# Altium integrated library Wuerth Elektronik SMD Power Choke.IntLib: 844 symbols (part 6 of 9)
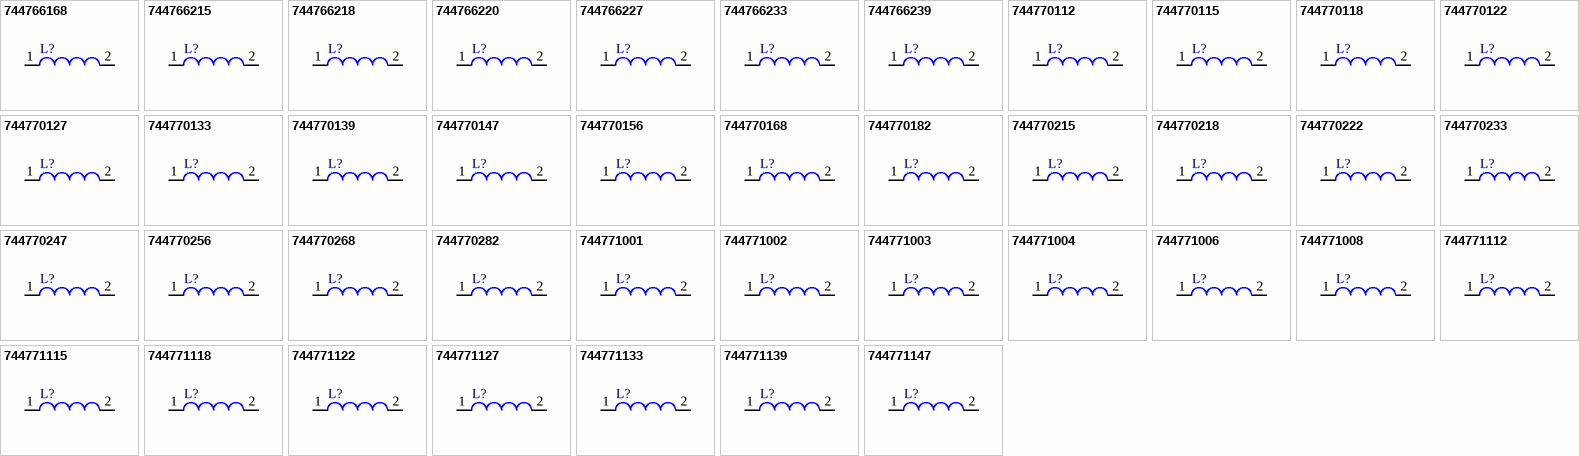
[diagram p27: symbols 744766168 to 744771147]

## 744771147
designator L?
SMD-Shielded Power Inductor WE-PD, L = 47.0 µH; Inductance: 47.0 µH; DatasheetVersion: ver 6, Jun-2005; PackageVersion: 2006; PackageReference: WE-PD-L; PackageDescription: SMD Inductor, 2-Leads, Body 12.0 x 12.0 mm; ComponentLink1Description: Manufacturer URL; ComponentLink1URL: http://www.we-online.com; ComponentLink2Description: Datasheet; ComponentLink2URL: http://www.we-online.de/katalog/media/pdf/744771147.pdf
footprint WE-PD-L (SMD Inductor, 2-Leads, Body 12.0x12.0x6.0 mm)
pins: 1, 2

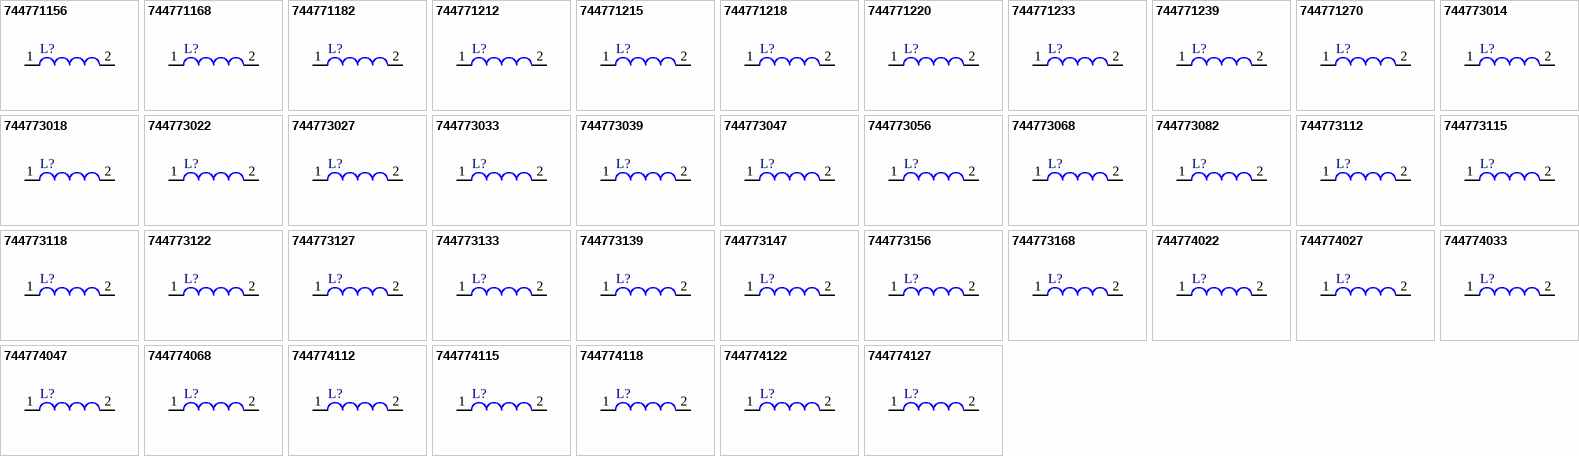
[diagram p12: symbols 744771156 to 744774127]

## 744771156
designator L?
SMD-Shielded Power Inductor WE-PD, L = 56.0 µH; Inductance: 56.0 µH; DatasheetVersion: ver 6, Jun-2005; PackageVersion: 2006; PackageReference: WE-PD-L; PackageDescription: SMD Inductor, 2-Leads, Body 12.0 x 12.0 mm; ComponentLink1Description: Manufacturer URL; ComponentLink1URL: http://www.we-online.com; ComponentLink2Description: Datasheet; ComponentLink2URL: http://www.we-online.de/katalog/media/pdf/744771156.pdf
footprint WE-PD-L (SMD Inductor, 2-Leads, Body 12.0x12.0x6.0 mm)
pins: 1, 2

## 744771168
designator L?
SMD-Shielded Power Inductor WE-PD, L = 68.0 µH; Inductance: 68.0 µH; DatasheetVersion: ver 6, Jun-2005; PackageVersion: 2006; PackageReference: WE-PD-L; PackageDescription: SMD Inductor, 2-Leads, Body 12.0 x 12.0 mm; ComponentLink1Description: Manufacturer URL; ComponentLink1URL: http://www.we-online.com; ComponentLink2Description: Datasheet; ComponentLink2URL: http://www.we-online.de/katalog/media/pdf/744771168.pdf
footprint WE-PD-L (SMD Inductor, 2-Leads, Body 12.0x12.0x6.0 mm)
pins: 1, 2

## 744771182
designator L?
SMD-Shielded Power Inductor WE-PD, L = 82.0 µH; Inductance: 82.0 µH; DatasheetVersion: ver 6, Jun-2005; PackageVersion: 2006; PackageReference: WE-PD-L; PackageDescription: SMD Inductor, 2-Leads, Body 12.0 x 12.0 mm; ComponentLink1Description: Manufacturer URL; ComponentLink1URL: http://www.we-online.com; ComponentLink2Description: Datasheet; ComponentLink2URL: http://www.we-online.de/katalog/media/pdf/744771182.pdf
footprint WE-PD-L (SMD Inductor, 2-Leads, Body 12.0x12.0x6.0 mm)
pins: 1, 2

## 744771212
designator L?
SMD-Shielded Power Inductor WE-PD, L = 120 µH; Inductance: 120 µH; DatasheetVersion: ver 6, Jun-2005; PackageVersion: 2006; PackageReference: WE-PD-L; PackageDescription: SMD Inductor, 2-Leads, Body 12.0 x 12.0 mm; ComponentLink1Description: Manufacturer URL; ComponentLink1URL: http://www.we-online.com; ComponentLink2Description: Datasheet; ComponentLink2URL: http://www.we-online.de/katalog/media/pdf/744771212.pdf
footprint WE-PD-L (SMD Inductor, 2-Leads, Body 12.0x12.0x6.0 mm)
pins: 1, 2

## 744771215
designator L?
SMD-Shielded Power Inductor WE-PD, L = 150 µH; Inductance: 150 µH; DatasheetVersion: ver 6, Jun-2005; PackageVersion: 2006; PackageReference: WE-PD-L; PackageDescription: SMD Inductor, 2-Leads, Body 12.0 x 12.0 mm; ComponentLink1Description: Manufacturer URL; ComponentLink1URL: http://www.we-online.com; ComponentLink2Description: Datasheet; ComponentLink2URL: http://www.we-online.de/katalog/media/pdf/744771215.pdf
footprint WE-PD-L (SMD Inductor, 2-Leads, Body 12.0x12.0x6.0 mm)
pins: 1, 2

## 744771218
designator L?
SMD-Shielded Power Inductor WE-PD, L = 1820 µH; Inductance: 180 µH; DatasheetVersion: ver 6, Jun-2005; PackageVersion: 2006; PackageReference: WE-PD-L; PackageDescription: SMD Inductor, 2-Leads, Body 12.0 x 12.0 mm; ComponentLink1Description: Manufacturer URL; ComponentLink1URL: http://www.we-online.com; ComponentLink2Description: Datasheet; ComponentLink2URL: http://www.we-online.de/katalog/media/pdf/744771218.pdf
footprint WE-PD-L (SMD Inductor, 2-Leads, Body 12.0x12.0x6.0 mm)
pins: 1, 2

## 744771220
designator L?
SMD-Shielded Power Inductor WE-PD, L = 220 µH; Inductance: 220 µH; DatasheetVersion: ver 6, Jun-2005; PackageVersion: 2006; PackageReference: WE-PD-L; PackageDescription: SMD Inductor, 2-Leads, Body 12.0 x 12.0 mm; ComponentLink1Description: Manufacturer URL; ComponentLink1URL: http://www.we-online.com; ComponentLink2Description: Datasheet; ComponentLink2URL: http://www.we-online.de/katalog/media/pdf/744771220.pdf
footprint WE-PD-L (SMD Inductor, 2-Leads, Body 12.0x12.0x6.0 mm)
pins: 1, 2

## 744771233
designator L?
SMD-Shielded Power Inductor WE-PD, L = 330 µH; Inductance: 330 µH; DatasheetVersion: ver 6, Jun-2005; PackageVersion: 2006; PackageReference: WE-PD-L; PackageDescription: SMD Inductor, 2-Leads, Body 12.0 x 12.0 mm; ComponentLink1Description: Manufacturer URL; ComponentLink1URL: http://www.we-online.com; ComponentLink2Description: Datasheet; ComponentLink2URL: http://www.we-online.de/katalog/media/pdf/744771233.pdf
footprint WE-PD-L (SMD Inductor, 2-Leads, Body 12.0x12.0x6.0 mm)
pins: 1, 2

## 744771239
designator L?
SMD-Shielded Power Inductor WE-PD, L = 390 µH; Inductance: 390 µH; DatasheetVersion: ver 6, Jun-2005; PackageVersion: 2006; PackageReference: WE-PD-L; PackageDescription: SMD Inductor, 2-Leads, Body 12.0 x 12.0 mm; ComponentLink1Description: Manufacturer URL; ComponentLink1URL: http://www.we-online.com; ComponentLink2Description: Datasheet; ComponentLink2URL: http://www.we-online.de/katalog/media/pdf/744771239.pdf
footprint WE-PD-L (SMD Inductor, 2-Leads, Body 12.0x12.0x6.0 mm)
pins: 1, 2

## 744771270
designator L?
SMD-Shielded Power Inductor WE-PD, L = 270 µH; Inductance: 270 µH; DatasheetVersion: ver 6, Jun-2005; PackageVersion: 2006; PackageReference: WE-PD-L; PackageDescription: SMD Inductor, 2-Leads, Body 12.0 x 12.0 mm; ComponentLink1Description: Manufacturer URL; ComponentLink1URL: http://www.we-online.com; ComponentLink2Description: Datasheet; ComponentLink2URL: http://www.we-online.de/katalog/media/pdf/744771270.pdf
footprint WE-PD-L (SMD Inductor, 2-Leads, Body 12.0x12.0x6.0 mm)
pins: 1, 2

## 744773014
designator L?
SMD Power Inductor WE-PD2, L = 1.40 µH; Inductance: 1.40 µH; DatasheetVersion: ver 1, Oct-2004; PackageVersion: 2004; PackageReference: WE-PD2-S; PackageDescription: SMD Inductor, 2-Leads, Body 4.5 x 4.0 mm; ComponentLink1Description: Manufacturer URL; ComponentLink1URL: http://www.we-online.com; ComponentLink2Description: Datasheet; ComponentLink2URL: http://www.we-online.de/katalog/media/pdf/744773014.pdf
footprint WE-PD2-S (SMD Inductor, 2-Leads, Body 4.5x4.0x3.5 mm)
pins: 1, 2

## 744773018
designator L?
SMD Power Inductor WE-PD2, L = 1.80 µH; Inductance: 1.80 µH; DatasheetVersion: ver 1, Oct-2004; PackageVersion: 2004; PackageReference: WE-PD2-S; PackageDescription: SMD Inductor, 2-Leads, Body 4.5 x 4.0 mm; ComponentLink1Description: Manufacturer URL; ComponentLink1URL: http://www.we-online.com; ComponentLink2Description: Datasheet; ComponentLink2URL: http://www.we-online.de/katalog/media/pdf/744773018.pdf
footprint WE-PD2-S (SMD Inductor, 2-Leads, Body 4.5x4.0x3.5 mm)
pins: 1, 2

## 744773022
designator L?
SMD Power Inductor WE-PD2, L = 2.20 µH; Inductance: 2.20 µH; DatasheetVersion: ver 1, Oct-2004; PackageVersion: 2004; PackageReference: WE-PD2-S; PackageDescription: SMD Inductor, 2-Leads, Body 4.5 x 4.0 mm; ComponentLink1Description: Manufacturer URL; ComponentLink1URL: http://www.we-online.com; ComponentLink2Description: Datasheet; ComponentLink2URL: http://www.we-online.de/katalog/media/pdf/744773022.pdf
footprint WE-PD2-S (SMD Inductor, 2-Leads, Body 4.5x4.0x3.5 mm)
pins: 1, 2

## 744773027
designator L?
SMD Power Inductor WE-PD2, L = 2.70 µH; Inductance: 2.70 µH; DatasheetVersion: ver 1, Oct-2004; PackageVersion: 2004; PackageReference: WE-PD2-S; PackageDescription: SMD Inductor, 2-Leads, Body 4.5 x 4.0 mm; ComponentLink1Description: Manufacturer URL; ComponentLink1URL: http://www.we-online.com; ComponentLink2Description: Datasheet; ComponentLink2URL: http://www.we-online.de/katalog/media/pdf/744773027.pdf
footprint WE-PD2-S (SMD Inductor, 2-Leads, Body 4.5x4.0x3.5 mm)
pins: 1, 2

## 744773033
designator L?
SMD Power Inductor WE-PD2, L = 3.30 µH; Inductance: 3.30 µH; DatasheetVersion: ver 1, Oct-2004; PackageVersion: 2004; PackageReference: WE-PD2-S; PackageDescription: SMD Inductor, 2-Leads, Body 4.5 x 4.0 mm; ComponentLink1Description: Manufacturer URL; ComponentLink1URL: http://www.we-online.com; ComponentLink2Description: Datasheet; ComponentLink2URL: http://www.we-online.de/katalog/media/pdf/744773033.pdf
footprint WE-PD2-S (SMD Inductor, 2-Leads, Body 4.5x4.0x3.5 mm)
pins: 1, 2

## 744773039
designator L?
SMD Power Inductor WE-PD2, L = 3.90 µH; Inductance: 3.90 µH; DatasheetVersion: ver 1, Oct-2004; PackageVersion: 2004; PackageReference: WE-PD2-S; PackageDescription: SMD Inductor, 2-Leads, Body 4.5 x 4.0 mm; ComponentLink1Description: Manufacturer URL; ComponentLink1URL: http://www.we-online.com; ComponentLink2Description: Datasheet; ComponentLink2URL: http://www.we-online.de/katalog/media/pdf/744773039.pdf
footprint WE-PD2-S (SMD Inductor, 2-Leads, Body 4.5x4.0x3.5 mm)
pins: 1, 2

## 744773047
designator L?
SMD Power Inductor WE-PD2, L = 4.70 µH; Inductance: 4.70 µH; DatasheetVersion: ver 1, Oct-2004; PackageVersion: 2004; PackageReference: WE-PD2-S; PackageDescription: SMD Inductor, 2-Leads, Body 4.5 x 4.0 mm; ComponentLink1Description: Manufacturer URL; ComponentLink1URL: http://www.we-online.com; ComponentLink2Description: Datasheet; ComponentLink2URL: http://www.we-online.de/katalog/media/pdf/744773047.pdf
footprint WE-PD2-S (SMD Inductor, 2-Leads, Body 4.5x4.0x3.5 mm)
pins: 1, 2

## 744773056
designator L?
SMD Power Inductor WE-PD2, L = 5.60 µH; Inductance: 5.60 µH; DatasheetVersion: ver 1, Oct-2004; PackageVersion: 2004; PackageReference: WE-PD2-S; PackageDescription: SMD Inductor, 2-Leads, Body 4.5 x 4.0 mm; ComponentLink1Description: Manufacturer URL; ComponentLink1URL: http://www.we-online.com; ComponentLink2Description: Datasheet; ComponentLink2URL: http://www.we-online.de/katalog/media/pdf/744773056.pdf
footprint WE-PD2-S (SMD Inductor, 2-Leads, Body 4.5x4.0x3.5 mm)
pins: 1, 2

## 744773068
designator L?
SMD Power Inductor WE-PD2, L = 6.80 µH; Inductance: 6.80 µH; DatasheetVersion: ver 1, Oct-2004; PackageVersion: 2004; PackageReference: WE-PD2-S; PackageDescription: SMD Inductor, 2-Leads, Body 4.5 x 4.0 mm; ComponentLink1Description: Manufacturer URL; ComponentLink1URL: http://www.we-online.com; ComponentLink2Description: Datasheet; ComponentLink2URL: http://www.we-online.de/katalog/media/pdf/744773068.pdf
footprint WE-PD2-S (SMD Inductor, 2-Leads, Body 4.5x4.0x3.5 mm)
pins: 1, 2

## 744773082
designator L?
SMD Power Inductor WE-PD2, L = 8.20 µH; Inductance: 8.20 µH; DatasheetVersion: ver 1, Oct-2004; PackageVersion: 2004; PackageReference: WE-PD2-S; PackageDescription: SMD Inductor, 2-Leads, Body 4.5 x 4.0 mm; ComponentLink1Description: Manufacturer URL; ComponentLink1URL: http://www.we-online.com; ComponentLink2Description: Datasheet; ComponentLink2URL: http://www.we-online.de/katalog/media/pdf/744773082.pdf
footprint WE-PD2-S (SMD Inductor, 2-Leads, Body 4.5x4.0x3.5 mm)
pins: 1, 2

## 744773112
designator L?
SMD Power Inductor WE-PD2, L = 12.0 µH; Inductance: 12.0 µH; DatasheetVersion: ver 1, Oct-2004; PackageVersion: 2004; PackageReference: WE-PD2-S; PackageDescription: SMD Inductor, 2-Leads, Body 4.5 x 4.0 mm; ComponentLink1Description: Manufacturer URL; ComponentLink1URL: http://www.we-online.com; ComponentLink2Description: Datasheet; ComponentLink2URL: http://www.we-online.de/katalog/media/pdf/744773112.pdf
footprint WE-PD2-S (SMD Inductor, 2-Leads, Body 4.5x4.0x3.5 mm)
pins: 1, 2

## 744773115
designator L?
SMD Power Inductor WE-PD2, L = 15.0 µH; Inductance: 15.0 µH; DatasheetVersion: ver 1, Oct-2004; PackageVersion: 2004; PackageReference: WE-PD2-S; PackageDescription: SMD Inductor, 2-Leads, Body 4.5 x 4.0 mm; ComponentLink1Description: Manufacturer URL; ComponentLink1URL: http://www.we-online.com; ComponentLink2Description: Datasheet; ComponentLink2URL: http://www.we-online.de/katalog/media/pdf/744773115.pdf
footprint WE-PD2-S (SMD Inductor, 2-Leads, Body 4.5x4.0x3.5 mm)
pins: 1, 2

## 744773118
designator L?
SMD Power Inductor WE-PD2, L = 18.0 µH; Inductance: 18.0 µH; DatasheetVersion: ver 1, Oct-2004; PackageVersion: 2004; PackageReference: WE-PD2-S; PackageDescription: SMD Inductor, 2-Leads, Body 4.5 x 4.0 mm; ComponentLink1Description: Manufacturer URL; ComponentLink1URL: http://www.we-online.com; ComponentLink2Description: Datasheet; ComponentLink2URL: http://www.we-online.de/katalog/media/pdf/744773118.pdf
footprint WE-PD2-S (SMD Inductor, 2-Leads, Body 4.5x4.0x3.5 mm)
pins: 1, 2

## 744773122
designator L?
SMD Power Inductor WE-PD2, L = 22.0 µH; Inductance: 22.0 µH; DatasheetVersion: ver 1, Oct-2004; PackageVersion: 2004; PackageReference: WE-PD2-S; PackageDescription: SMD Inductor, 2-Leads, Body 4.5 x 4.0 mm; ComponentLink1Description: Manufacturer URL; ComponentLink1URL: http://www.we-online.com; ComponentLink2Description: Datasheet; ComponentLink2URL: http://www.we-online.de/katalog/media/pdf/744773122.pdf
footprint WE-PD2-S (SMD Inductor, 2-Leads, Body 4.5x4.0x3.5 mm)
pins: 1, 2

## 744773127
designator L?
SMD Power Inductor WE-PD2, L = 27.0 µH; Inductance: 27.0 µH; DatasheetVersion: ver 1, Oct-2004; PackageVersion: 2004; PackageReference: WE-PD2-S; PackageDescription: SMD Inductor, 2-Leads, Body 4.5 x 4.0 mm; ComponentLink1Description: Manufacturer URL; ComponentLink1URL: http://www.we-online.com; ComponentLink2Description: Datasheet; ComponentLink2URL: http://www.we-online.de/katalog/media/pdf/744773127.pdf
footprint WE-PD2-S (SMD Inductor, 2-Leads, Body 4.5x4.0x3.5 mm)
pins: 1, 2

## 744773133
designator L?
SMD Power Inductor WE-PD2, L = 33.0 µH; Inductance: 33.0 µH; DatasheetVersion: ver 1, Oct-2004; PackageVersion: 2004; PackageReference: WE-PD2-S; PackageDescription: SMD Inductor, 2-Leads, Body 4.5 x 4.0 mm; ComponentLink1Description: Manufacturer URL; ComponentLink1URL: http://www.we-online.com; ComponentLink2Description: Datasheet; ComponentLink2URL: http://www.we-online.de/katalog/media/pdf/744773133.pdf
footprint WE-PD2-S (SMD Inductor, 2-Leads, Body 4.5x4.0x3.5 mm)
pins: 1, 2

## 744773139
designator L?
SMD Power Inductor WE-PD2, L = 39.0 µH; Inductance: 39.0 µH; DatasheetVersion: ver 1, Oct-2004; PackageVersion: 2004; PackageReference: WE-PD2-S; PackageDescription: SMD Inductor, 2-Leads, Body 4.5 x 4.0 mm; ComponentLink1Description: Manufacturer URL; ComponentLink1URL: http://www.we-online.com; ComponentLink2Description: Datasheet; ComponentLink2URL: http://www.we-online.de/katalog/media/pdf/744773139.pdf
footprint WE-PD2-S (SMD Inductor, 2-Leads, Body 4.5x4.0x3.5 mm)
pins: 1, 2

## 744773147
designator L?
SMD Power Inductor WE-PD2, L = 47.0 µH; Inductance: 47.0 µH; DatasheetVersion: ver 1, Oct-2004; PackageVersion: 2004; PackageReference: WE-PD2-S; PackageDescription: SMD Inductor, 2-Leads, Body 4.5 x 4.0 mm; ComponentLink1Description: Manufacturer URL; ComponentLink1URL: http://www.we-online.com; ComponentLink2Description: Datasheet; ComponentLink2URL: http://www.we-online.de/katalog/media/pdf/744773147.pdf
footprint WE-PD2-S (SMD Inductor, 2-Leads, Body 4.5x4.0x3.5 mm)
pins: 1, 2

## 744773156
designator L?
SMD Power Inductor WE-PD2, L = 56.0 µH; Inductance: 56.0 µH; DatasheetVersion: ver 1, Oct-2004; PackageVersion: 2004; PackageReference: WE-PD2-S; PackageDescription: SMD Inductor, 2-Leads, Body 4.5 x 4.0 mm; ComponentLink1Description: Manufacturer URL; ComponentLink1URL: http://www.we-online.com; ComponentLink2Description: Datasheet; ComponentLink2URL: http://www.we-online.de/katalog/media/pdf/744773156.pdf
footprint WE-PD2-S (SMD Inductor, 2-Leads, Body 4.5x4.0x3.5 mm)
pins: 1, 2

## 744773168
designator L?
SMD Power Inductor WE-PD2, L = 68.0 µH; Inductance: 68.0 µH; DatasheetVersion: ver 1, Oct-2004; PackageVersion: 2004; PackageReference: WE-PD2-S; PackageDescription: SMD Inductor, 2-Leads, Body 4.5 x 4.0 mm; ComponentLink1Description: Manufacturer URL; ComponentLink1URL: http://www.we-online.com; ComponentLink2Description: Datasheet; ComponentLink2URL: http://www.we-online.de/katalog/media/pdf/744773168.pdf
footprint WE-PD2-S (SMD Inductor, 2-Leads, Body 4.5x4.0x3.5 mm)
pins: 1, 2

## 744774022
designator L?
SMD Power Inductor WE-PD2, L = 2.20 µH; Inductance: 2.20 µH; DatasheetVersion: ver 2, Jun-2005; PackageVersion: 2005; PackageReference: WE-PD2-M; PackageDescription: SMD Inductor, 2-Leads, Body 5.8 x 5.2 mm; ComponentLink1Description: Manufacturer URL; ComponentLink1URL: http://www.we-online.com; ComponentLink2Description: Datasheet; ComponentLink2URL: http://www.we-online.de/katalog/media/pdf/744774022.pdf
footprint WE-PD2-M (SMD Inductor, 2-Leads, Body 5.8x5.2x4.85 mm)
pins: 1, 2

## 744774027
designator L?
SMD Power Inductor WE-PD2, L = 2.70 µH; Inductance: 2.70 µH; DatasheetVersion: ver 2, Jun-2005; PackageVersion: 2005; PackageReference: WE-PD2-M; PackageDescription: SMD Inductor, 2-Leads, Body 5.8 x 5.2 mm; ComponentLink1Description: Manufacturer URL; ComponentLink1URL: http://www.we-online.com; ComponentLink2Description: Datasheet; ComponentLink2URL: http://www.we-online.de/katalog/media/pdf/744774027.pdf
footprint WE-PD2-M (SMD Inductor, 2-Leads, Body 5.8x5.2x4.85 mm)
pins: 1, 2

## 744774033
designator L?
SMD Power Inductor WE-PD2, L = 3.30 µH; Inductance: 3.30 µH; DatasheetVersion: ver 1, Mar-2007; PackageVersion: 2005; PackageReference: WE-PD2-M; PackageDescription: SMD Inductor, 2-Leads, Body 5.8 x 5.2 mm; ComponentLink1Description: Manufacturer URL; ComponentLink1URL: http://www.we-online.com; ComponentLink2Description: Datasheet; ComponentLink2URL: http://www.we-online.de/katalog/media/pdf/744774033.pdf
footprint WE-PD2-M (SMD Inductor, 2-Leads, Body 5.8x5.2x4.85 mm)
pins: 1, 2

## 744774047
designator L?
SMD Power Inductor WE-PD2, L = 4.70 µH; Inductance: 4.70 µH; DatasheetVersion: ver 2, Jun-2005; PackageVersion: 2005; PackageReference: WE-PD2-M; PackageDescription: SMD Inductor, 2-Leads, Body 5.8 x 5.2 mm; ComponentLink1Description: Manufacturer URL; ComponentLink1URL: http://www.we-online.com; ComponentLink2Description: Datasheet; ComponentLink2URL: http://www.we-online.de/katalog/media/pdf/744774047.pdf
footprint WE-PD2-M (SMD Inductor, 2-Leads, Body 5.8x5.2x4.85 mm)
pins: 1, 2

## 744774068
designator L?
SMD Power Inductor WE-PD2, L = 6.80 µH; Inductance: 6.80 µH; DatasheetVersion: ver 3, Jun-2006; PackageVersion: 2005; PackageReference: WE-PD2-M; PackageDescription: SMD Inductor, 2-Leads, Body 5.8 x 5.2 mm; ComponentLink1Description: Manufacturer URL; ComponentLink1URL: http://www.we-online.com; ComponentLink2Description: Datasheet; ComponentLink2URL: http://www.we-online.de/katalog/media/pdf/744774068.pdf
footprint WE-PD2-M (SMD Inductor, 2-Leads, Body 5.8x5.2x4.85 mm)
pins: 1, 2

## 744774112
designator L?
SMD Power Inductor WE-PD2, L = 12.0 µH; Inductance: 12.0 µH; DatasheetVersion: ver 3, Jun-2006; PackageVersion: 2005; PackageReference: WE-PD2-M; PackageDescription: SMD Inductor, 2-Leads, Body 5.8 x 5.2 mm; ComponentLink1Description: Manufacturer URL; ComponentLink1URL: http://www.we-online.com; ComponentLink2Description: Datasheet; ComponentLink2URL: http://www.we-online.de/katalog/media/pdf/744774112.pdf
footprint WE-PD2-M (SMD Inductor, 2-Leads, Body 5.8x5.2x4.85 mm)
pins: 1, 2

## 744774115
designator L?
SMD Power Inductor WE-PD2, L = 15.0 µH; Inductance: 15.0 µH; DatasheetVersion: ver 4, Dec-2006; PackageVersion: 2005; PackageReference: WE-PD2-M; PackageDescription: SMD Inductor, 2-Leads, Body 5.8 x 5.2 mm; ComponentLink1Description: Manufacturer URL; ComponentLink1URL: http://www.we-online.com; ComponentLink2Description: Datasheet; ComponentLink2URL: http://www.we-online.de/katalog/media/pdf/744774115.pdf
footprint WE-PD2-M (SMD Inductor, 2-Leads, Body 5.8x5.2x4.85 mm)
pins: 1, 2

## 744774118
designator L?
SMD Power Inductor WE-PD2, L = 18.0 µH; Inductance: 18.0 µH; DatasheetVersion: ver 2, Jun-2005; PackageVersion: 2005; PackageReference: WE-PD2-M; PackageDescription: SMD Inductor, 2-Leads, Body 5.8 x 5.2 mm; ComponentLink1Description: Manufacturer URL; ComponentLink1URL: http://www.we-online.com; ComponentLink2Description: Datasheet; ComponentLink2URL: http://www.we-online.de/katalog/media/pdf/744774118.pdf
footprint WE-PD2-M (SMD Inductor, 2-Leads, Body 5.8x5.2x4.85 mm)
pins: 1, 2

## 744774122
designator L?
SMD Power Inductor WE-PD2, L = 22.0 µH; Inductance: 22.0 µH; DatasheetVersion: ver 2, Jun-2005; PackageVersion: 2005; PackageReference: WE-PD2-M; PackageDescription: SMD Inductor, 2-Leads, Body 5.8 x 5.2 mm; ComponentLink1Description: Manufacturer URL; ComponentLink1URL: http://www.we-online.com; ComponentLink2Description: Datasheet; ComponentLink2URL: http://www.we-online.de/katalog/media/pdf/744774122.pdf
footprint WE-PD2-M (SMD Inductor, 2-Leads, Body 5.8x5.2x4.85 mm)
pins: 1, 2

## 744774127
designator L?
SMD Power Inductor WE-PD2, L = 27.0 µH; Inductance: 27.0 µH; DatasheetVersion: ver 2, Jun-2005; PackageVersion: 2005; PackageReference: WE-PD2-M; PackageDescription: SMD Inductor, 2-Leads, Body 5.8 x 5.2 mm; ComponentLink1Description: Manufacturer URL; ComponentLink1URL: http://www.we-online.com; ComponentLink2Description: Datasheet; ComponentLink2URL: http://www.we-online.de/katalog/media/pdf/744774127.pdf
footprint WE-PD2-M (SMD Inductor, 2-Leads, Body 5.8x5.2x4.85 mm)
pins: 1, 2

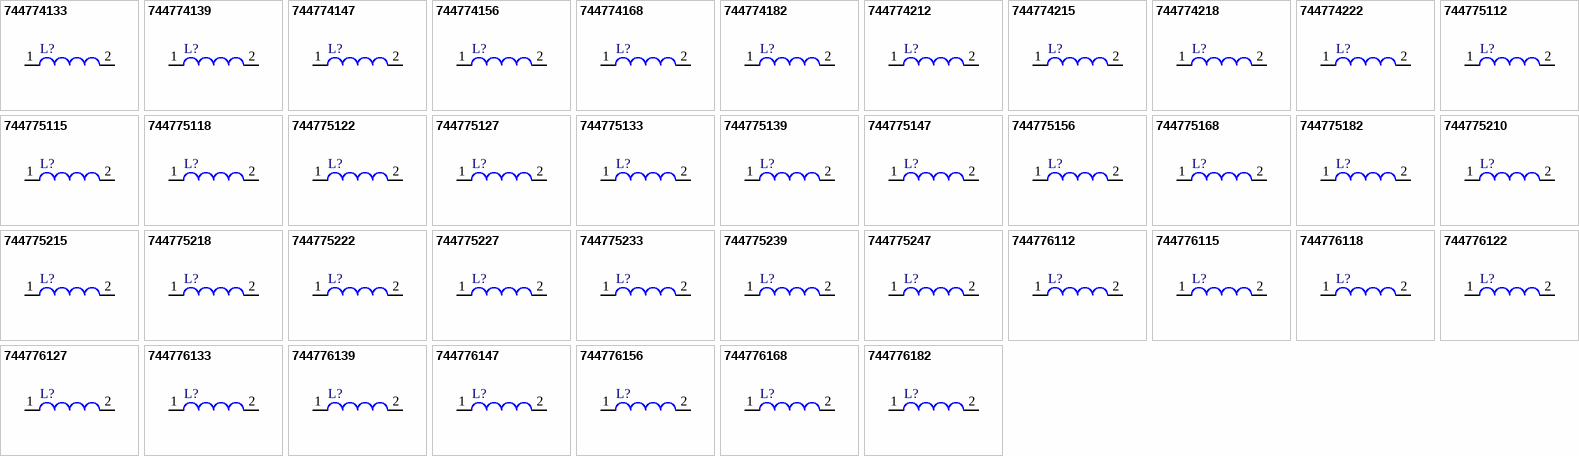
[diagram p13: symbols 744774133 to 744776182]

## 744774133
designator L?
SMD Power Inductor WE-PD2, L = 33.0 µH; Inductance: 33.0 µH; DatasheetVersion: ver 2, Jun-2005; PackageVersion: 2005; PackageReference: WE-PD2-M; PackageDescription: SMD Inductor, 2-Leads, Body 5.8 x 5.2 mm; ComponentLink1Description: Manufacturer URL; ComponentLink1URL: http://www.we-online.com; ComponentLink2Description: Datasheet; ComponentLink2URL: http://www.we-online.de/katalog/media/pdf/744774133.pdf
footprint WE-PD2-M (SMD Inductor, 2-Leads, Body 5.8x5.2x4.85 mm)
pins: 1, 2

## 744774139
designator L?
SMD Power Inductor WE-PD2, L = 39.0 µH; Inductance: 39.0 µH; DatasheetVersion: ver 2, Jun-2005; PackageVersion: 2005; PackageReference: WE-PD2-M; PackageDescription: SMD Inductor, 2-Leads, Body 5.8 x 5.2 mm; ComponentLink1Description: Manufacturer URL; ComponentLink1URL: http://www.we-online.com; ComponentLink2Description: Datasheet; ComponentLink2URL: http://www.we-online.de/katalog/media/pdf/744774139.pdf
footprint WE-PD2-M (SMD Inductor, 2-Leads, Body 5.8x5.2x4.85 mm)
pins: 1, 2

## 744774147
designator L?
SMD Power Inductor WE-PD2, L = 47.0 µH; Inductance: 47.0 µH; DatasheetVersion: ver 2, Jun-2005; PackageVersion: 2005; PackageReference: WE-PD2-M; PackageDescription: SMD Inductor, 2-Leads, Body 5.8 x 5.2 mm; ComponentLink1Description: Manufacturer URL; ComponentLink1URL: http://www.we-online.com; ComponentLink2Description: Datasheet; ComponentLink2URL: http://www.we-online.de/katalog/media/pdf/744774147.pdf
footprint WE-PD2-M (SMD Inductor, 2-Leads, Body 5.8x5.2x4.85 mm)
pins: 1, 2

## 744774156
designator L?
SMD Power Inductor WE-PD2, L = 56.0 µH; Inductance: 56.0 µH; DatasheetVersion: ver 2, Jun-2005; PackageVersion: 2005; PackageReference: WE-PD2-M; PackageDescription: SMD Inductor, 2-Leads, Body 5.8 x 5.2 mm; ComponentLink1Description: Manufacturer URL; ComponentLink1URL: http://www.we-online.com; ComponentLink2Description: Datasheet; ComponentLink2URL: http://www.we-online.de/katalog/media/pdf/744774156.pdf
footprint WE-PD2-M (SMD Inductor, 2-Leads, Body 5.8x5.2x4.85 mm)
pins: 1, 2

## 744774168
designator L?
SMD Power Inductor WE-PD2, L = 68.0 µH; Inductance: 68.0 µH; DatasheetVersion: ver 2, Jun-2005; PackageVersion: 2005; PackageReference: WE-PD2-M; PackageDescription: SMD Inductor, 2-Leads, Body 5.8 x 5.2 mm; ComponentLink1Description: Manufacturer URL; ComponentLink1URL: http://www.we-online.com; ComponentLink2Description: Datasheet; ComponentLink2URL: http://www.we-online.de/katalog/media/pdf/744774168.pdf
footprint WE-PD2-M (SMD Inductor, 2-Leads, Body 5.8x5.2x4.85 mm)
pins: 1, 2

## 744774182
designator L?
SMD Power Inductor WE-PD2, L = 82.0 µH; Inductance: 82.0 µH; DatasheetVersion: ver 2, Jun-2005; PackageVersion: 2005; PackageReference: WE-PD2-M; PackageDescription: SMD Inductor, 2-Leads, Body 5.8 x 5.2 mm; ComponentLink1Description: Manufacturer URL; ComponentLink1URL: http://www.we-online.com; ComponentLink2Description: Datasheet; ComponentLink2URL: http://www.we-online.de/katalog/media/pdf/744774182.pdf
footprint WE-PD2-M (SMD Inductor, 2-Leads, Body 5.8x5.2x4.85 mm)
pins: 1, 2

## 744774212
designator L?
SMD Power Inductor WE-PD2, L = 120 µH; Inductance: 120 µH; DatasheetVersion: ver 2, Jun-2005; PackageVersion: 2005; PackageReference: WE-PD2-M; PackageDescription: SMD Inductor, 2-Leads, Body 5.8 x 5.2 mm; ComponentLink1Description: Manufacturer URL; ComponentLink1URL: http://www.we-online.com; ComponentLink2Description: Datasheet; ComponentLink2URL: http://www.we-online.de/katalog/media/pdf/744774212.pdf
footprint WE-PD2-M (SMD Inductor, 2-Leads, Body 5.8x5.2x4.85 mm)
pins: 1, 2

## 744774215
designator L?
SMD Power Inductor WE-PD2, L = 150 µH; Inductance: 150 µH; DatasheetVersion: ver 2, Jun-2005; PackageVersion: 2005; PackageReference: WE-PD2-M; PackageDescription: SMD Inductor, 2-Leads, Body 5.8 x 5.2 mm; ComponentLink1Description: Manufacturer URL; ComponentLink1URL: http://www.we-online.com; ComponentLink2Description: Datasheet; ComponentLink2URL: http://www.we-online.de/katalog/media/pdf/744774215.pdf
footprint WE-PD2-M (SMD Inductor, 2-Leads, Body 5.8x5.2x4.85 mm)
pins: 1, 2

## 744774218
designator L?
SMD Power Inductor WE-PD2, L = 180 µH; Inductance: 180 µH; DatasheetVersion: ver 2, Jun-2005; PackageVersion: 2005; PackageReference: WE-PD2-M; PackageDescription: SMD Inductor, 2-Leads, Body 5.8 x 5.2 mm; ComponentLink1Description: Manufacturer URL; ComponentLink1URL: http://www.we-online.com; ComponentLink2Description: Datasheet; ComponentLink2URL: http://www.we-online.de/katalog/media/pdf/744774218.pdf
footprint WE-PD2-M (SMD Inductor, 2-Leads, Body 5.8x5.2x4.85 mm)
pins: 1, 2

## 744774222
designator L?
SMD Power Inductor WE-PD2, L = 220 µH; Inductance: 220 µH; DatasheetVersion: ver 2, Jun-2005; PackageVersion: 2005; PackageReference: WE-PD2-M; PackageDescription: SMD Inductor, 2-Leads, Body 5.8 x 5.2 mm; ComponentLink1Description: Manufacturer URL; ComponentLink1URL: http://www.we-online.com; ComponentLink2Description: Datasheet; ComponentLink2URL: http://www.we-online.de/katalog/media/pdf/744774222.pdf
footprint WE-PD2-M (SMD Inductor, 2-Leads, Body 5.8x5.2x4.85 mm)
pins: 1, 2

## 744775112
designator L?
SMD Power Inductor WE-PD2, L = 12.0 µH; Inductance: 12.0 µH; DatasheetVersion: ver 1, Oct-2004; PackageVersion: 2004; PackageReference: WE-PD2-L; PackageDescription: SMD Inductor, 2-Leads, Body 7.8 x 7.0 mm; ComponentLink1Description: Manufacturer URL; ComponentLink1URL: http://www.we-online.com; ComponentLink2Description: Datasheet; ComponentLink2URL: http://www.we-online.de/katalog/media/pdf/744775112.pdf
footprint WE-PD2-L (SMD Inductor, 2-Leads, Body 7.8x7.0x5.5 mm)
pins: 1, 2

## 744775115
designator L?
SMD Power Inductor WE-PD2, L = 15.0 µH; Inductance: 15.0 µH; DatasheetVersion: ver 1, Oct-2004; PackageVersion: 2004; PackageReference: WE-PD2-L; PackageDescription: SMD Inductor, 2-Leads, Body 7.8 x 7.0 mm; ComponentLink1Description: Manufacturer URL; ComponentLink1URL: http://www.we-online.com; ComponentLink2Description: Datasheet; ComponentLink2URL: http://www.we-online.de/katalog/media/pdf/744775115.pdf
footprint WE-PD2-L (SMD Inductor, 2-Leads, Body 7.8x7.0x5.5 mm)
pins: 1, 2

## 744775118
designator L?
SMD Power Inductor WE-PD2, L = 18.0 µH; Inductance: 18.0 µH; DatasheetVersion: ver 1, Oct-2004; PackageVersion: 2004; PackageReference: WE-PD2-L; PackageDescription: SMD Inductor, 2-Leads, Body 7.8 x 7.0 mm; ComponentLink1Description: Manufacturer URL; ComponentLink1URL: http://www.we-online.com; ComponentLink2Description: Datasheet; ComponentLink2URL: http://www.we-online.de/katalog/media/pdf/744775118.pdf
footprint WE-PD2-L (SMD Inductor, 2-Leads, Body 7.8x7.0x5.5 mm)
pins: 1, 2

## 744775122
designator L?
SMD Power Inductor WE-PD2, L = 22.0 µH; Inductance: 22.0 µH; DatasheetVersion: ver 1, Oct-2004; PackageVersion: 2004; PackageReference: WE-PD2-L; PackageDescription: SMD Inductor, 2-Leads, Body 7.8 x 7.0 mm; ComponentLink1Description: Manufacturer URL; ComponentLink1URL: http://www.we-online.com; ComponentLink2Description: Datasheet; ComponentLink2URL: http://www.we-online.de/katalog/media/pdf/744775122.pdf
footprint WE-PD2-L (SMD Inductor, 2-Leads, Body 7.8x7.0x5.5 mm)
pins: 1, 2

## 744775127
designator L?
SMD Power Inductor WE-PD2, L = 27.0 µH; Inductance: 27.0 µH; DatasheetVersion: ver 1, Oct-2004; PackageVersion: 2004; PackageReference: WE-PD2-L; PackageDescription: SMD Inductor, 2-Leads, Body 7.8 x 7.0 mm; ComponentLink1Description: Manufacturer URL; ComponentLink1URL: http://www.we-online.com; ComponentLink2Description: Datasheet; ComponentLink2URL: http://www.we-online.de/katalog/media/pdf/744775127.pdf
footprint WE-PD2-L (SMD Inductor, 2-Leads, Body 7.8x7.0x5.5 mm)
pins: 1, 2

## 744775133
designator L?
SMD Power Inductor WE-PD2, L = 33.0 µH; Inductance: 33.0 µH; DatasheetVersion: ver 1, Oct-2004; PackageVersion: 2004; PackageReference: WE-PD2-L; PackageDescription: SMD Inductor, 2-Leads, Body 7.8 x 7.0 mm; ComponentLink1Description: Manufacturer URL; ComponentLink1URL: http://www.we-online.com; ComponentLink2Description: Datasheet; ComponentLink2URL: http://www.we-online.de/katalog/media/pdf/744775133.pdf
footprint WE-PD2-L (SMD Inductor, 2-Leads, Body 7.8x7.0x5.5 mm)
pins: 1, 2

## 744775139
designator L?
SMD Power Inductor WE-PD2, L = 39.0 µH; Inductance: 39.0 µH; DatasheetVersion: ver 1, Oct-2004; PackageVersion: 2004; PackageReference: WE-PD2-L; PackageDescription: SMD Inductor, 2-Leads, Body 7.8 x 7.0 mm; ComponentLink1Description: Manufacturer URL; ComponentLink1URL: http://www.we-online.com; ComponentLink2Description: Datasheet; ComponentLink2URL: http://www.we-online.de/katalog/media/pdf/744775139.pdf
footprint WE-PD2-L (SMD Inductor, 2-Leads, Body 7.8x7.0x5.5 mm)
pins: 1, 2

## 744775147
designator L?
SMD Power Inductor WE-PD2, L = 47.0 µH; Inductance: 47.0 µH; DatasheetVersion: ver 1, Oct-2004; PackageVersion: 2004; PackageReference: WE-PD2-L; PackageDescription: SMD Inductor, 2-Leads, Body 7.8 x 7.0 mm; ComponentLink1Description: Manufacturer URL; ComponentLink1URL: http://www.we-online.com; ComponentLink2Description: Datasheet; ComponentLink2URL: http://www.we-online.de/katalog/media/pdf/744775147.pdf
footprint WE-PD2-L (SMD Inductor, 2-Leads, Body 7.8x7.0x5.5 mm)
pins: 1, 2

## 744775156
designator L?
SMD Power Inductor WE-PD2, L = 56.0 µH; Inductance: 56.0 µH; DatasheetVersion: ver 1, Oct-2004; PackageVersion: 2004; PackageReference: WE-PD2-L; PackageDescription: SMD Inductor, 2-Leads, Body 7.8 x 7.0 mm; ComponentLink1Description: Manufacturer URL; ComponentLink1URL: http://www.we-online.com; ComponentLink2Description: Datasheet; ComponentLink2URL: http://www.we-online.de/katalog/media/pdf/744775156.pdf
footprint WE-PD2-L (SMD Inductor, 2-Leads, Body 7.8x7.0x5.5 mm)
pins: 1, 2

## 744775168
designator L?
SMD Power Inductor WE-PD2, L = 68.0 µH; Inductance: 68.0 µH; DatasheetVersion: ver 1, Oct-2004; PackageVersion: 2004; PackageReference: WE-PD2-L; PackageDescription: SMD Inductor, 2-Leads, Body 7.8 x 7.0 mm; ComponentLink1Description: Manufacturer URL; ComponentLink1URL: http://www.we-online.com; ComponentLink2Description: Datasheet; ComponentLink2URL: http://www.we-online.de/katalog/media/pdf/744775168.pdf
footprint WE-PD2-L (SMD Inductor, 2-Leads, Body 7.8x7.0x5.5 mm)
pins: 1, 2

## 744775182
designator L?
SMD Power Inductor WE-PD2, L = 82.0 µH; Inductance: 82.0 µH; DatasheetVersion: ver 1, Oct-2004; PackageVersion: 2004; PackageReference: WE-PD2-L; PackageDescription: SMD Inductor, 2-Leads, Body 7.8 x 7.0 mm; ComponentLink1Description: Manufacturer URL; ComponentLink1URL: http://www.we-online.com; ComponentLink2Description: Datasheet; ComponentLink2URL: http://www.we-online.de/katalog/media/pdf/744775182.pdf
footprint WE-PD2-L (SMD Inductor, 2-Leads, Body 7.8x7.0x5.5 mm)
pins: 1, 2

## 744775210
designator L?
SMD Power Inductor WE-PD2, L = 120 µH; Inductance: 120 µH; DatasheetVersion: ver 1, Oct-2004; PackageVersion: 2004; PackageReference: WE-PD2-L; PackageDescription: SMD Inductor, 2-Leads, Body 7.8 x 7.0 mm; ComponentLink1Description: Manufacturer URL; ComponentLink1URL: http://www.we-online.com; ComponentLink2Description: Datasheet; ComponentLink2URL: http://www.we-online.de/katalog/media/pdf/744775210.pdf
footprint WE-PD2-L (SMD Inductor, 2-Leads, Body 7.8x7.0x5.5 mm)
pins: 1, 2

## 744775215
designator L?
SMD Power Inductor WE-PD2, L = 150 µH; Inductance: 150 µH; DatasheetVersion: ver 1, Oct-2004; PackageVersion: 2004; PackageReference: WE-PD2-L; PackageDescription: SMD Inductor, 2-Leads, Body 7.8 x 7.0 mm; ComponentLink1Description: Manufacturer URL; ComponentLink1URL: http://www.we-online.com; ComponentLink2Description: Datasheet; ComponentLink2URL: http://www.we-online.de/katalog/media/pdf/744775215.pdf
footprint WE-PD2-L (SMD Inductor, 2-Leads, Body 7.8x7.0x5.5 mm)
pins: 1, 2

## 744775218
designator L?
SMD Power Inductor WE-PD2, L = 180 µH; Inductance: 180 µH; DatasheetVersion: ver 1, Oct-2004; PackageVersion: 2004; PackageReference: WE-PD2-L; PackageDescription: SMD Inductor, 2-Leads, Body 7.8 x 7.0 mm; ComponentLink1Description: Manufacturer URL; ComponentLink1URL: http://www.we-online.com; ComponentLink2Description: Datasheet; ComponentLink2URL: http://www.we-online.de/katalog/media/pdf/744775218.pdf
footprint WE-PD2-L (SMD Inductor, 2-Leads, Body 7.8x7.0x5.5 mm)
pins: 1, 2

## 744775222
designator L?
SMD Power Inductor WE-PD2, L = 220 µH; Inductance: 220 µH; DatasheetVersion: ver 1, Oct-2004; PackageVersion: 2004; PackageReference: WE-PD2-L; PackageDescription: SMD Inductor, 2-Leads, Body 7.8 x 7.0 mm; ComponentLink1Description: Manufacturer URL; ComponentLink1URL: http://www.we-online.com; ComponentLink2Description: Datasheet; ComponentLink2URL: http://www.we-online.de/katalog/media/pdf/744775222.pdf
footprint WE-PD2-L (SMD Inductor, 2-Leads, Body 7.8x7.0x5.5 mm)
pins: 1, 2

## 744775227
designator L?
SMD Power Inductor WE-PD2, L = 270 µH; Inductance: 270 µH; DatasheetVersion: ver 1, Oct-2004; PackageVersion: 2004; PackageReference: WE-PD2-L; PackageDescription: SMD Inductor, 2-Leads, Body 7.8 x 7.0 mm; ComponentLink1Description: Manufacturer URL; ComponentLink1URL: http://www.we-online.com; ComponentLink2Description: Datasheet; ComponentLink2URL: http://www.we-online.de/katalog/media/pdf/744775227.pdf
footprint WE-PD2-L (SMD Inductor, 2-Leads, Body 7.8x7.0x5.5 mm)
pins: 1, 2

## 744775233
designator L?
SMD Power Inductor WE-PD2, L = 330 µH; Inductance: 330 µH; DatasheetVersion: ver 1, Oct-2004; PackageVersion: 2004; PackageReference: WE-PD2-L; PackageDescription: SMD Inductor, 2-Leads, Body 7.8 x 7.0 mm; ComponentLink1Description: Manufacturer URL; ComponentLink1URL: http://www.we-online.com; ComponentLink2Description: Datasheet; ComponentLink2URL: http://www.we-online.de/katalog/media/pdf/744775233.pdf
footprint WE-PD2-L (SMD Inductor, 2-Leads, Body 7.8x7.0x5.5 mm)
pins: 1, 2

## 744775239
designator L?
SMD Power Inductor WE-PD2, L = 390 µH; Inductance: 390 µH; DatasheetVersion: ver 1, Oct-2004; PackageVersion: 2004; PackageReference: WE-PD2-L; PackageDescription: SMD Inductor, 2-Leads, Body 7.8 x 7.0 mm; ComponentLink1Description: Manufacturer URL; ComponentLink1URL: http://www.we-online.com; ComponentLink2Description: Datasheet; ComponentLink2URL: http://www.we-online.de/katalog/media/pdf/744775239.pdf
footprint WE-PD2-L (SMD Inductor, 2-Leads, Body 7.8x7.0x5.5 mm)
pins: 1, 2

## 744775247
designator L?
SMD Power Inductor WE-PD2, L = 470 µH; Inductance: 470 µH; DatasheetVersion: 1/10/2004; PackageVersion: 2004; PackageReference: WE-PD2-L; PackageDescription: SMD Inductor, 2-Leads, Body 7.8 x 7.0 mm; ComponentLink1Description: Manufacturer URL; ComponentLink1URL: http://www.we-online.com; ComponentLink2Description: Datasheet; ComponentLink2URL: http://www.we-online.de/katalog/media/pdf/744775247.pdf
footprint WE-PD2-L (SMD Inductor, 2-Leads, Body 7.8x7.0x5.5 mm)
pins: 1, 2

## 744776112
designator L?
SMD Power Inductor WE-PD2, L = 12.0 µH; Inductance: 12.0 µH; DatasheetVersion: ver 1, Oct-2004; PackageVersion: 2004; PackageReference: WE-PD2-XL; PackageDescription: SMD Inductor, 2-Leads, Body 10.0 x 9.0 mm; ComponentLink1Description: Manufacturer URL; ComponentLink1URL: http://www.we-online.com; ComponentLink2Description: Datasheet; ComponentLink2URL: http://www.we-online.de/katalog/media/pdf/744776112.pdf
footprint WE-PD2-XL (SMD Inductor, 2-Leads, Body 10.0x9.0x5.9 mm)
pins: 1, 2

## 744776115
designator L?
SMD Power Inductor WE-PD2, L = 15.0 µH; Inductance: 15.0 µH; DatasheetVersion: ver 1, Oct-2004; PackageVersion: 2004; PackageReference: WE-PD2-XL; PackageDescription: SMD Inductor, 2-Leads, Body 10.0 x 9.0 mm; ComponentLink1Description: Manufacturer URL; ComponentLink1URL: http://www.we-online.com; ComponentLink2Description: Datasheet; ComponentLink2URL: http://www.we-online.de/katalog/media/pdf/744776115.pdf
footprint WE-PD2-XL (SMD Inductor, 2-Leads, Body 10.0x9.0x5.9 mm)
pins: 1, 2

## 744776118
designator L?
SMD Power Inductor WE-PD2, L = 18.0 µH; Inductance: 18.0 µH; DatasheetVersion: ver 1, Oct-2004; PackageVersion: 2004; PackageReference: WE-PD2-XL; PackageDescription: SMD Inductor, 2-Leads, Body 10.0 x 9.0 mm; ComponentLink1Description: Manufacturer URL; ComponentLink1URL: http://www.we-online.com; ComponentLink2Description: Datasheet; ComponentLink2URL: http://www.we-online.de/katalog/media/pdf/744776118.pdf
footprint WE-PD2-XL (SMD Inductor, 2-Leads, Body 10.0x9.0x5.9 mm)
pins: 1, 2

## 744776122
designator L?
SMD Power Inductor WE-PD2, L = 22.0 µH; Inductance: 22.0 µH; DatasheetVersion: ver 1, Oct-2004; PackageVersion: 2004; PackageReference: WE-PD2-XL; PackageDescription: SMD Inductor, 2-Leads, Body 10.0 x 9.0 mm; ComponentLink1Description: Manufacturer URL; ComponentLink1URL: http://www.we-online.com; ComponentLink2Description: Datasheet; ComponentLink2URL: http://www.we-online.de/katalog/media/pdf/744776122.pdf
footprint WE-PD2-XL (SMD Inductor, 2-Leads, Body 10.0x9.0x5.9 mm)
pins: 1, 2

## 744776127
designator L?
SMD Power Inductor WE-PD2, L = 27.0 µH; Inductance: 27.0 µH; DatasheetVersion: ver 1, Oct-2004; PackageVersion: 2004; PackageReference: WE-PD2-XL; PackageDescription: SMD Inductor, 2-Leads, Body 10.0 x 9.0 mm; ComponentLink1Description: Manufacturer URL; ComponentLink1URL: http://www.we-online.com; ComponentLink2Description: Datasheet; ComponentLink2URL: http://www.we-online.de/katalog/media/pdf/744776127.pdf
footprint WE-PD2-XL (SMD Inductor, 2-Leads, Body 10.0x9.0x5.9 mm)
pins: 1, 2

## 744776133
designator L?
SMD Power Inductor WE-PD2, L = 33.0 µH; Inductance: 33.0 µH; DatasheetVersion: ver 1, Oct-2004; PackageVersion: 2004; PackageReference: WE-PD2-XL; PackageDescription: SMD Inductor, 2-Leads, Body 10.0 x 9.0 mm; ComponentLink1Description: Manufacturer URL; ComponentLink1URL: http://www.we-online.com; ComponentLink2Description: Datasheet; ComponentLink2URL: http://www.we-online.de/katalog/media/pdf/744776133.pdf
footprint WE-PD2-XL (SMD Inductor, 2-Leads, Body 10.0x9.0x5.9 mm)
pins: 1, 2

## 744776139
designator L?
SMD Power Inductor WE-PD2, L = 39.0 µH; Inductance: 39.0 µH; DatasheetVersion: ver 1, Oct-2004; PackageVersion: 2004; PackageReference: WE-PD2-XL; PackageDescription: SMD Inductor, 2-Leads, Body 10.0 x 9.0 mm; ComponentLink1Description: Manufacturer URL; ComponentLink1URL: http://www.we-online.com; ComponentLink2Description: Datasheet; ComponentLink2URL: http://www.we-online.de/katalog/media/pdf/744776139.pdf
footprint WE-PD2-XL (SMD Inductor, 2-Leads, Body 10.0x9.0x5.9 mm)
pins: 1, 2

## 744776147
designator L?
SMD Power Inductor WE-PD2, L = 47.0 µH; Inductance: 47.0 µH; DatasheetVersion: ver 1, Oct-2004; PackageVersion: 2004; PackageReference: WE-PD2-XL; PackageDescription: SMD Inductor, 2-Leads, Body 10.0 x 9.0 mm; ComponentLink1Description: Manufacturer URL; ComponentLink1URL: http://www.we-online.com; ComponentLink2Description: Datasheet; ComponentLink2URL: http://www.we-online.de/katalog/media/pdf/744776147.pdf
footprint WE-PD2-XL (SMD Inductor, 2-Leads, Body 10.0x9.0x5.9 mm)
pins: 1, 2

## 744776156
designator L?
SMD Power Inductor WE-PD2, L = 56.0 µH; Inductance: 56.0 µH; DatasheetVersion: ver 1, Oct-2004; PackageVersion: 2004; PackageReference: WE-PD2-XL; PackageDescription: SMD Inductor, 2-Leads, Body 10.0 x 9.0 mm; ComponentLink1Description: Manufacturer URL; ComponentLink1URL: http://www.we-online.com; ComponentLink2Description: Datasheet; ComponentLink2URL: http://www.we-online.de/katalog/media/pdf/744776156.pdf
footprint WE-PD2-XL (SMD Inductor, 2-Leads, Body 10.0x9.0x5.9 mm)
pins: 1, 2

## 744776168
designator L?
SMD Power Inductor WE-PD2, L = 68.0 µH; Inductance: 68.0 µH; DatasheetVersion: ver 1, Oct-2004; PackageVersion: 2004; PackageReference: WE-PD2-XL; PackageDescription: SMD Inductor, 2-Leads, Body 10.0 x 9.0 mm; ComponentLink1Description: Manufacturer URL; ComponentLink1URL: http://www.we-online.com; ComponentLink2Description: Datasheet; ComponentLink2URL: http://www.we-online.de/katalog/media/pdf/744776168.pdf
footprint WE-PD2-XL (SMD Inductor, 2-Leads, Body 10.0x9.0x5.9 mm)
pins: 1, 2

## 744776182
designator L?
SMD Power Inductor WE-PD2, L = 82.0 µH; Inductance: 82.0 µH; DatasheetVersion: ver 1, Oct-2004; PackageVersion: 2004; PackageReference: WE-PD2-XL; PackageDescription: SMD Inductor, 2-Leads, Body 10.0 x 9.0 mm; ComponentLink1Description: Manufacturer URL; ComponentLink1URL: http://www.we-online.com; ComponentLink2Description: Datasheet; ComponentLink2URL: http://www.we-online.de/katalog/media/pdf/744776182.pdf
footprint WE-PD2-XL (SMD Inductor, 2-Leads, Body 10.0x9.0x5.9 mm)
pins: 1, 2

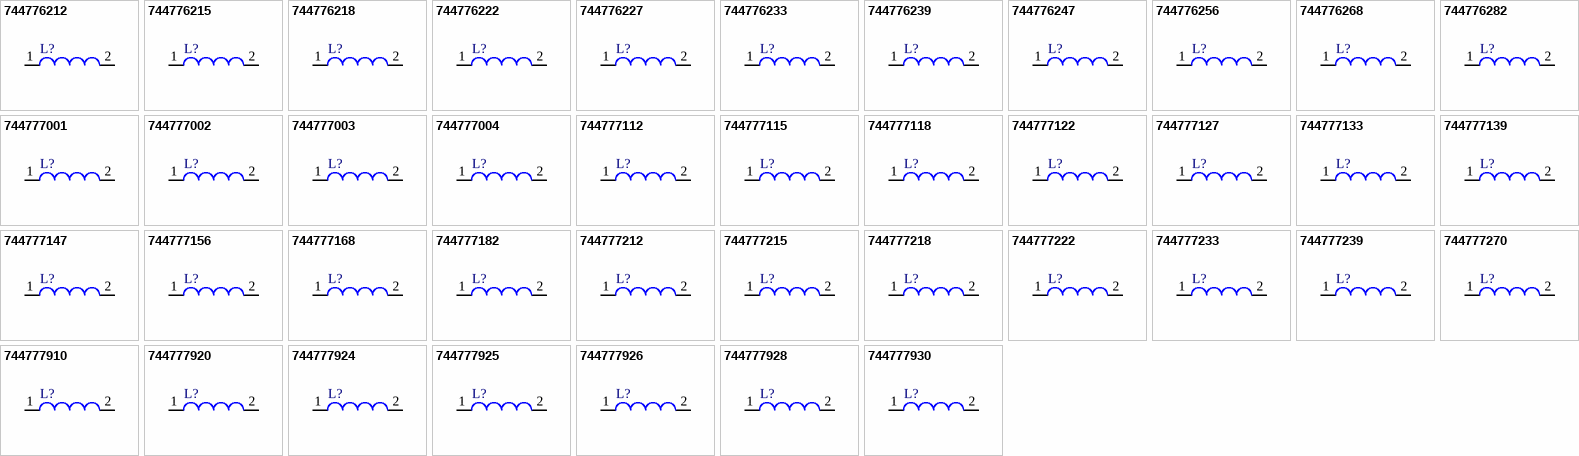
[diagram p14: symbols 744776212 to 744777930]

## 744776212
designator L?
SMD Power Inductor WE-PD2, L = 120 µH; Inductance: 120 µH; DatasheetVersion: ver 1, Oct-2004; PackageVersion: 2004; PackageReference: WE-PD2-XL; PackageDescription: SMD Inductor, 2-Leads, Body 10.0 x 9.0 mm; ComponentLink1Description: Manufacturer URL; ComponentLink1URL: http://www.we-online.com; ComponentLink2Description: Datasheet; ComponentLink2URL: http://www.we-online.de/katalog/media/pdf/744776212.pdf
footprint WE-PD2-XL (SMD Inductor, 2-Leads, Body 10.0x9.0x5.9 mm)
pins: 1, 2

## 744776215
designator L?
SMD Power Inductor WE-PD2, L = 150 µH; Inductance: 150 µH; DatasheetVersion: ver 1, Oct-2004; PackageVersion: 2004; PackageReference: WE-PD2-XL; PackageDescription: SMD Inductor, 2-Leads, Body 10.0 x 9.0 mm; ComponentLink1Description: Manufacturer URL; ComponentLink1URL: http://www.we-online.com; ComponentLink2Description: Datasheet; ComponentLink2URL: http://www.we-online.de/katalog/media/pdf/744776215.pdf
footprint WE-PD2-XL (SMD Inductor, 2-Leads, Body 10.0x9.0x5.9 mm)
pins: 1, 2

## 744776218
designator L?
SMD Power Inductor WE-PD2, L = 180 µH; Inductance: 180 µH; DatasheetVersion: ver 1, Oct-2004; PackageVersion: 2004; PackageReference: WE-PD2-XL; PackageDescription: SMD Inductor, 2-Leads, Body 10.0 x 9.0 mm; ComponentLink1Description: Manufacturer URL; ComponentLink1URL: http://www.we-online.com; ComponentLink2Description: Datasheet; ComponentLink2URL: http://www.we-online.de/katalog/media/pdf/744776218.pdf
footprint WE-PD2-XL (SMD Inductor, 2-Leads, Body 10.0x9.0x5.9 mm)
pins: 1, 2

## 744776222
designator L?
SMD Power Inductor WE-PD2, L = 220 µH; Inductance: 220 µH; DatasheetVersion: ver 1, Oct-2004; PackageVersion: 2004; PackageReference: WE-PD2-XL; PackageDescription: SMD Inductor, 2-Leads, Body 10.0 x 9.0 mm; ComponentLink1Description: Manufacturer URL; ComponentLink1URL: http://www.we-online.com; ComponentLink2Description: Datasheet; ComponentLink2URL: http://www.we-online.de/katalog/media/pdf/744776222.pdf
footprint WE-PD2-XL (SMD Inductor, 2-Leads, Body 10.0x9.0x5.9 mm)
pins: 1, 2

## 744776227
designator L?
SMD Power Inductor WE-PD2, L = 270 µH; Inductance: 270 µH; DatasheetVersion: ver 1, Oct-2004; PackageVersion: 2004; PackageReference: WE-PD2-XL; PackageDescription: SMD Inductor, 2-Leads, Body 10.0 x 9.0 mm; ComponentLink1Description: Manufacturer URL; ComponentLink1URL: http://www.we-online.com; ComponentLink2Description: Datasheet; ComponentLink2URL: http://www.we-online.de/katalog/media/pdf/744776227.pdf
footprint WE-PD2-XL (SMD Inductor, 2-Leads, Body 10.0x9.0x5.9 mm)
pins: 1, 2

## 744776233
designator L?
SMD Power Inductor WE-PD2, L = 330 µH; Inductance: 330 µH; DatasheetVersion: ver 1, Oct-2004; PackageVersion: 2004; PackageReference: WE-PD2-XL; PackageDescription: SMD Inductor, 2-Leads, Body 10.0 x 9.0 mm; ComponentLink1Description: Manufacturer URL; ComponentLink1URL: http://www.we-online.com; ComponentLink2Description: Datasheet; ComponentLink2URL: http://www.we-online.de/katalog/media/pdf/744776233.pdf
footprint WE-PD2-XL (SMD Inductor, 2-Leads, Body 10.0x9.0x5.9 mm)
pins: 1, 2

## 744776239
designator L?
SMD Power Inductor WE-PD2, L = 390 µH; Inductance: 390 µH; DatasheetVersion: ver 1, Oct-2004; PackageVersion: 2004; PackageReference: WE-PD2-XL; PackageDescription: SMD Inductor, 2-Leads, Body 10.0 x 9.0 mm; ComponentLink1Description: Manufacturer URL; ComponentLink1URL: http://www.we-online.com; ComponentLink2Description: Datasheet; ComponentLink2URL: http://www.we-online.de/katalog/media/pdf/744776239.pdf
footprint WE-PD2-XL (SMD Inductor, 2-Leads, Body 10.0x9.0x5.9 mm)
pins: 1, 2

## 744776247
designator L?
SMD Power Inductor WE-PD2, L = 470 µH; Inductance: 470 µH; DatasheetVersion: ver 1, Oct-2004; PackageVersion: 2004; PackageReference: WE-PD2-XL; PackageDescription: SMD Inductor, 2-Leads, Body 10.0 x 9.0 mm; ComponentLink1Description: Manufacturer URL; ComponentLink1URL: http://www.we-online.com; ComponentLink2Description: Datasheet; ComponentLink2URL: http://www.we-online.de/katalog/media/pdf/744776247.pdf
footprint WE-PD2-XL (SMD Inductor, 2-Leads, Body 10.0x9.0x5.9 mm)
pins: 1, 2

## 744776256
designator L?
SMD Power Inductor WE-PD2, L = 560 µH; Inductance: 560 µH; DatasheetVersion: ver 1, Oct-2004; PackageVersion: 2004; PackageReference: WE-PD2-XL; PackageDescription: SMD Inductor, 2-Leads, Body 10.0 x 9.0 mm; ComponentLink1Description: Manufacturer URL; ComponentLink1URL: http://www.we-online.com; ComponentLink2Description: Datasheet; ComponentLink2URL: http://www.we-online.de/katalog/media/pdf/744776256.pdf
footprint WE-PD2-XL (SMD Inductor, 2-Leads, Body 10.0x9.0x5.9 mm)
pins: 1, 2

## 744776268
designator L?
SMD Power Inductor WE-PD2, L = 680 µH; Inductance: 680 µH; DatasheetVersion: ver 1, Oct-2004; PackageVersion: 2004; PackageReference: WE-PD2-XL; PackageDescription: SMD Inductor, 2-Leads, Body 10.0 x 9.0 mm; ComponentLink1Description: Manufacturer URL; ComponentLink1URL: http://www.we-online.com; ComponentLink2Description: Datasheet; ComponentLink2URL: http://www.we-online.de/katalog/media/pdf/744776268.pdf
footprint WE-PD2-XL (SMD Inductor, 2-Leads, Body 10.0x9.0x5.9 mm)
pins: 1, 2

## 744776282
designator L?
SMD Power Inductor WE-PD2, L = 820 µH; Inductance: 820 µH; DatasheetVersion: ver 1, Oct-2004; PackageVersion: 2004; PackageReference: WE-PD2-XL; PackageDescription: SMD Inductor, 2-Leads, Body 10.0 x 9.0 mm; ComponentLink1Description: Manufacturer URL; ComponentLink1URL: http://www.we-online.com; ComponentLink2Description: Datasheet; ComponentLink2URL: http://www.we-online.de/katalog/media/pdf/744776282.pdf
footprint WE-PD2-XL (SMD Inductor, 2-Leads, Body 10.0x9.0x5.9 mm)
pins: 1, 2

## 744777001
designator L?
SMD-Shielded Power Inductor WE-PD, L = 1.00 µH; Inductance: 1.00 µH; DatasheetVersion: 1/09/2009; PackageVersion: 2006; PackageReference: WE-PD-M; PackageDescription: SMD Inductor, 2-Leads, Body 7.3 x 7.3 mm; ComponentLink1Description: Manufacturer URL; ComponentLink1URL: http://www.we-online.com; ComponentLink2Description: Datasheet; ComponentLink2URL: http://www.we-online.de/katalog/media/pdf/744777001.pdf
footprint WE-PD-M (SMD Inductor, 2-Leads, Body 7.3x7.3x4.5 mm)
pins: 1, 2

## 744777002
designator L?
SMD-Shielded Power Inductor WE-PD, L = 2.20 µH; Inductance: 2.20 µH; DatasheetVersion: ver 5, Sep-2006; PackageVersion: 2006; PackageReference: WE-PD-M; PackageDescription: SMD Inductor, 2-Leads, Body 7.3 x 7.3 mm; ComponentLink1Description: Manufacturer URL; ComponentLink1URL: http://www.we-online.com; ComponentLink2Description: Datasheet; ComponentLink2URL: http://www.we-online.de/katalog/media/pdf/744777002.pdf
footprint WE-PD-M (SMD Inductor, 2-Leads, Body 7.3x7.3x4.5 mm)
pins: 1, 2

## 744777003
designator L?
SMD-Shielded Power Inductor WE-PD, L = 3.30 µH; Inductance: 3.30 µH; DatasheetVersion: ver 5, Sep-2006; PackageVersion: 2006; PackageReference: WE-PD-M; PackageDescription: SMD Inductor, 2-Leads, Body 7.3 x 7.3 mm; ComponentLink1Description: Manufacturer URL; ComponentLink1URL: http://www.we-online.com; ComponentLink2Description: Datasheet; ComponentLink2URL: http://www.we-online.de/katalog/media/pdf/744777003.pdf
footprint WE-PD-M (SMD Inductor, 2-Leads, Body 7.3x7.3x4.5 mm)
pins: 1, 2

## 744777004
designator L?
SMD-Shielded Power Inductor WE-PD, L = 4.70 µH; Inductance: 4.70 µH; DatasheetVersion: ver 5, Sep-2006; PackageVersion: 2006; PackageReference: WE-PD-M; PackageDescription: SMD Inductor, 2-Leads, Body 7.3 x 7.3 mm; ComponentLink1Description: Manufacturer URL; ComponentLink1URL: http://www.we-online.com; ComponentLink2Description: Datasheet; ComponentLink2URL: http://www.we-online.de/katalog/media/pdf/744777004.pdf
footprint WE-PD-M (SMD Inductor, 2-Leads, Body 7.3x7.3x4.5 mm)
pins: 1, 2